# Altium schematic symbol library SPEC_A7_Management.SCHLIB: 17 symbols
Pins are listed as number, name and electrical type; pins without a type are passive.

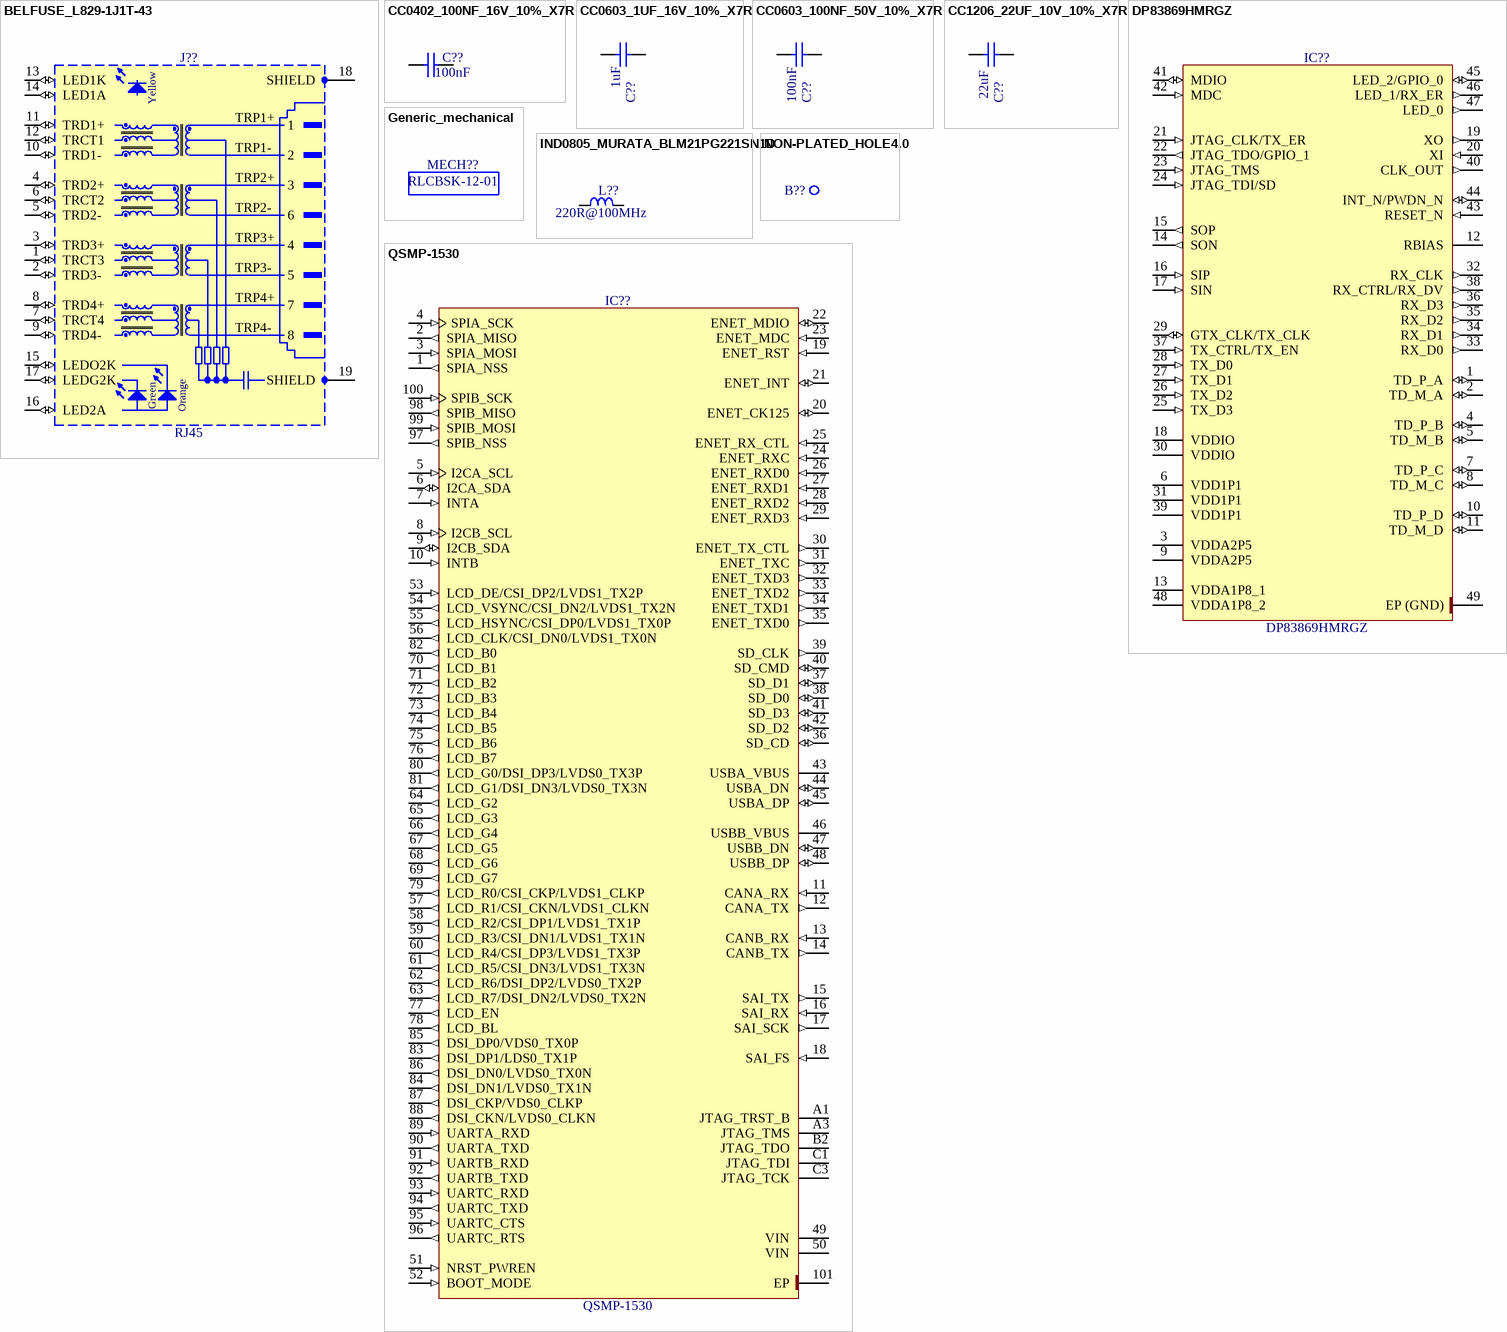
[diagram p0: symbols BELFUSE_L829-1J1T-43 to QSMP-1530]

## BELFUSE_L829-1J1T-43
designator J??, comment RJ45
1 Port, RJ45, Gigabit Ethernet, MagJack Connector Module With Yellow And Green/Orange LEDs; Part Number: BELFUSE_L829-1J1T-43; Part Description: 1 Port, Yellow/ Green-Orange LEDs,  RJ45 10/100/1000 Gigabit Ethernet, MagJack® Connector Module; Manufacturer: BEL MAGNETIC SOLUTIONS; Manufacturer Part Number: L829-1J1T-43; PressFit: No; Component Kind: Standard; Component Type: Standard; Footprint: BEL_L829-1J1T-43; Pin Count: 19; Family: RJ45; Mounted: Yes; Socket: No; SMD: No; Sense: No; Status: None; ComponentHeight: 13.3mm; HelpURL: \\cern.ch\dfs\Applications\Altium\Datasheets\BEL_L829-1J1T-43.pdf; Author: CERN DEM JLC; CreateDate: 22.08.2011; LatestRevisionDate: 20.09.2018
footprint BEL_L829-1J1T-43
pins: 1 TRCT3 (io), 2 TRD3- (io), 3 TRD3+ (io), 4 TRD2+ (io), 5 TRD2- (io), 6 TRCT2 (io), 7 TRCT4 (io), 8 TRD4+ (io), 9 TRD4- (io), 10 TRD1- (io), 11 TRD1+ (io), 12 TRCT1 (io), 13 LED1K (io), 14 LED1A (io), 15 LEDO2K (io), 16 LED2A (io), 17 LEDG2K (io), 18 SHIELD (power), 19 SHIELD (power)
text: Yellow; TRP1+; TRP1-; TRP2+; TRP2-; TRP3+; TRP3-; TRP4+; TRP4-; Green; Orange

## CC0402_100NF_16V_10%_X7R
designator C??, comment 100nF
Non-polarised capacitor; Part Number: CC0402_100NF_16V_10%_X7R; Part Description: SMD Multilayer Chip Ceramic Capacitor; Manufacturer: GENERIC; Manufacturer1 Part Number: GRM155R71C104KA88D; Voltage: 16V; TC: X7R; Tolerance: ±10%; Component Kind: Standard; Component Type: Standard; Footprint: CAPC1005X55N; Pin Count: 2; Value: 100nF; Status: Not Recommended; Manufacturer Part Number: CC0402_100NF_16V_10%_X7R; Case: 0402; Mounted: Yes; Socket: No; SMD: Yes; Sense: No; Manufacturer1 Example: MURATA; Manufacturer1 ComponentHeight: 0.55mm; HelpURL: \\cern.ch\dfs\Applications\Altium\Datasheets\CC0402_X7R_MURATA_GRM.pdf; Author: CERN DEM JLC; CreateDate: 05/12/2013; LatestRevisionDate: 03/12/2007
footprint CAPC1005X55N
pins: 1, 2

## CC0603_1UF_16V_10%_X7R
designator C??, comment 1uF
Non-polarised capacitor; Part Number: CC0603_1UF_16V_10%_X7R; Part Description: SMD Multilayer Chip Ceramic Capacitor; Manufacturer: GENERIC; Manufacturer1 Part Number: 223824613663; Voltage: 16V; TC: X7R; Tolerance: ±10%; Table: Capacitors SMD; Component Kind: Standard; Component Type: Standard; Footprint: CAPC1608X87N; Pin Count: 2; Value: 1uF; Status: Preferred; Manufacturer Part Number: CC0603_1uF_16V_10%_X7R; Case: 0603; Mounted: Yes; Socket: No; SMD: Yes; Manufacturer1 Example: PHYCOMP; Manufacturer1 ComponentHeight: 0.87mm; HelpURL: \\cern.ch\dfs\Applications\Altium\Datasheets\CC0805_X5R_PHYCOMP_HC.pdf; Author: CERN DEM JLC; CreateDate: 03/12/2007; LatestRevisionDate: 03/12/2007
footprint CAPC1608X87N
pins: 1, 2

## CC0603_100NF_50V_10%_X7R
designator C??, comment 100nF
Non-polarised capacitor; Part Number: CC0603_100NF_50V_10%_X7R; Part Description: SMD Multilayer Chip Ceramic Capacitor; Manufacturer: GENERIC; Manufacturer1 Part Number: 223858615649; Voltage: 50V; TC: X7R; Tolerance: ±10%; Table: Capacitors SMD; Component Kind: Standard; Component Type: Standard; Footprint: CAPC1608X87N; Pin Count: 2; Value: 100nF; Status: Preferred; Manufacturer Part Number: CC0603_100NF_50V_10%_X7R; Case: 0603; Mounted: Yes; Socket: No; SMD: Yes; Manufacturer1 Example: PHYCOMP; Manufacturer1 ComponentHeight: 0.87mm; HelpURL: \\cern.ch\dfs\Applications\Altium\Datasheets\CC0603_X7R_PHYCOMP.pdf; Author: CERN DEM JLC; CreateDate: 12/3/2007; LatestRevisionDate: 12/3/2007
footprint CAPC1608X87N
pins: 1, 2

## CC1206_22UF_10V_10%_X7R
designator C??, comment 22uF
Non-polarised capacitor; Part Number: CC1206_22UF_10V_10%_X7R; Part Description: SMD Multilayer Chip Ceramic Capacitor; Manufacturer: GENERIC; Manufacturer1 Part Number: GRM31CR71A226KE15L; Voltage: 10V; TC: X7R; Tolerance: ±10%; Table: Capacitors SMD; Component Kind: Standard; Component Type: Standard; Footprint: CAPC3216X180N; Pin Count: 2; Value: 22uF; Status: Preferred; Manufacturer Part Number: CC1206_22UF_10V_10%_X7R; Case: 1206; Mounted: Yes; Socket: No; SMD: Yes; Manufacturer1 Example: MURATA; Manufacturer1 ComponentHeight: 1.8mm; HelpURL: \\cern.ch\dfs\Applications\Altium\Datasheets\CC1206_X7R_MURATA_GRM-HI-CAP.pdf; Author: CERN DEM JLC; CreateDate: 2010-06-08; LatestRevisionDate: 2010-06-08
footprint CAPC3216X180N
pins: 1, 2

## DP83869HMRGZ
designator IC??
DP83869HM High Immunity 10/100/1000 Ethernet Physical Layer Transceiver WithCopper and Fiber Interface; Manufacturer: TEXAS INSTRUMENTS; PressFit: No; Bonding: No; Part Number: DP83869HMRGZ; Component Kind: Standard; Component Type: Standard; Device: DP83869HMRGZ; Footprint: QFN50P700X700X100-49N-S420; PackageDescription: QFN, 0.50mm Pitch, Square; 48 Pin, 7.00mm L X 7.00mm W X 1.00mm H body (w/Thermal Tab 4.20 X 4.20mm), IPC Medium Density; Part Description: High Immunity 10/100/1000 Ethernet Physical Layer Transceiver with Copper and Fiber Interface; Manufacturer Part Number: DP83869HMRGZ; Pin Count: 48; Case: QFN48; Mounted: Yes; Socket: No; SMD: Yes; Sense: No; ComponentHeight: 1mm; Author: CERN DEM HF; HelpURL: \\cern.ch\dfs\Applications\Altium\Datasheets\DP83869HMRGZ.pdf; CreateDate: 24.04.2024; LatestRevisionDate: 24.04.2024
footprint QFN50P700X700X100-49N-S420
pins: 1 TD_P_A (io), 2 TD_M_A (io), 3 VDDA2P5 (power), 4 TD_P_B (io), 5 TD_M_B (io), 6 VDD1P1 (power), 7 TD_P_C (io), 8 TD_M_C (io), 9 VDDA2P5 (power), 10 TD_P_D (io), 11 TD_M_D (io), 12 RBIAS, 13 VDDA1P8_1 (power), 14 SON (out), 15 SOP (out), 16 SIP (in), 17 SIN (in), 18 VDDIO (power), 19 XO (out), 20 XI (in), 21 JTAG_CLK/TX_ER (in), 22 JTAG_TDO/GPIO_1 (out), 23 JTAG_TMS (in), 24 JTAG_TDI/SD (in), 25 TX_D3 (in), 26 TX_D2 (in), 27 TX_D1 (in), 28 TX_D0 (in), 29 GTX_CLK/TX_CLK (io), 30 VDDIO (power), 31 VDD1P1 (power), 32 RX_CLK (out), 33 RX_D0 (out), 34 RX_D1 (out), 35 RX_D2 (out), 36 RX_D3 (out), 37 TX_CTRL/TX_EN (in), 38 RX_CTRL/RX_DV (out), 39 VDD1P1 (power), 40 CLK_OUT (out), 41 MDIO (io), 42 MDC (in), 43 RESET_N (in), 44 INT_N/PWDN_N (io), 45 LED_2/GPIO_0 (io), 46 LED_1/RX_ER (out), 47 LED_0 (out), 48 VDDA1P8_2 (power), 49 EP (GND) (power)

## Generic_mechanical
designator MECH??, comment RLCBSK-12-01
generic; Part Number: Essentra; Part Description: 12mm nylon standoff; PressFit: No; Component Kind: Accessories; Component Type: Standard; Footprint: generic_MECH; Pin Count: 0; PackageDescription: generic; Mounted: Yes; Socket: No; SMD: No; Sense: No; Status: None; Value: RLCBSK-12-01; Manufacturer: Essentra; Manufacturer Part Number: RLCBSK-12-01; ComponentHeight: 12; Author: GK; CreateDate: 28.10.2019; LatestRevisionDate: 28.10.2019
footprint GENERIC_MECH

## IND0805_MURATA_BLM21PG221SN1D
designator L??, comment 220R@100MHz
Inductor; Part Number: IND0805_MURATA_BLM21PG221SN1D; Part Description: SMD EMIFIL Suppression Chip Bead Ferrite; Manufacturer: MURATA; Manufacturer Part Number: BLM21PG221SN1D; Power: 2A; Resistance: 0.05R; Tolerance: ±25%; Table: Inductors SMD; Component Kind: Standard; Component Type: Standard; Footprint: INDC2012X105N; Pin Count: 2; Value: 220R@100MHz; Status: None; Case: 0805; Mounted: Yes; Socket: No; SMD: Yes; ComponentHeight: 1.05mm; HelpURL: \\cern.ch\dfs\Applications\Altium\Datasheets\IND0402_MURATA_BLM21P.pdf; Author: CERN DEM JLC; CreateDate: 25/01/2010; LatestRevisionDate: 25/01/2010
footprint INDC2012X105N
pins: 1, 2

## NON-PLATED_HOLE4.0
designator B??, comment Non Plated Hole  (value not drawn)  (no BOM)
Single Terminal Socket; Part Number: NON-PLATED_HOLE4.0; Part Description: Non Plated Through Hole: Hole Dia.=4.0mm; Mounted: No; Component Type: Standard (No BOM); Footprint: MTG400; Pin Count: 1; Family: Non Plated Hole; Socket: No; SMD: No; Sense: No; Status: None; ComponentHeight: 0mm; HelpURL: Undefined; Author: CERN DEM JMW; CreateDate: 22.03.2019; LatestRevisionDate: 22.03.2019; PackageDescription: Non Plated Through Hole: Hole Dia.=4.0mm
footprint MTG400
pins: 1 (io)

## QSMP-1530
designator IC??
Computer-On-Modules - COM QSMP/153A/256S/4GF/E85; Manufacturer: KARO; PressFit: No; Bonding: No; Part Number: QSMP-1530; Component Kind: Standard; Component Type: Standard; Device: QSMP-1530; Footprint: KARO_QSMP-1530; PackageDescription: QFN, 0.65mm Pitch, 100 Pin,27.35mm L X 27.35mm W X 2.3mm H Body (w/Thermal Tab 24.3 X 24.3mm); Status: Not Recommended; Part Description: Computer-On-Modules - COM QSMP/153A/256S/4GF/E85; Manufacturer Part Number: QSMP-1530; Pin Count: 106; Case: QFP100; Mounted: Yes; Socket: No; SMD: Yes; Sense: No; ComponentHeight: 2.3mm; HelpURL: \\cern.ch\dfs\Applications\Altium\Datasheets\KARO_QSMP-1530.pdf; Author: CERN DEM HF; CreateDate: 22.04.2024; LatestRevisionDate: 22.04.2024
footprint KARO_QSMP-1530
pins: 1 SPIA_NSS (out), 2 SPIA_MISO (out), 3 SPIA_MOSI (in), 4 SPIA_SCK (in), 5 I2CA_SCL (in), 6 I2CA_SDA (io), 7 INTA (in), 8 I2CB_SCL (in), 9 I2CB_SDA (io), 10 INTB (in), 11 CANA_RX (in), 12 CANA_TX (out), 13 CANB_RX (in), 14 CANB_TX (out), 15 SAI_TX (out), 16 SAI_RX (in), 17 SAI_SCK (out), 18 SAI_FS (in), 19 ENET_RST (in), 20 ENET_CK125 (io), 21 ENET_INT (io), 22 ENET_MDIO (io), 23 ENET_MDC (in), 24 ENET_RXC (in), 25 ENET_RX_CTL (in), 26 ENET_RXD0 (in), 27 ENET_RXD1 (in), 28 ENET_RXD2 (in), 29 ENET_RXD3 (in), 30 ENET_TX_CTL (out), 31 ENET_TXC (out), 32 ENET_TXD3 (out), 33 ENET_TXD2 (out), 34 ENET_TXD1 (out), 35 ENET_TXD0 (out), 36 SD_CD (io), 37 SD_D1 (io), 38 SD_D0 (io), 39 SD_CLK (out), 40 SD_CMD (io), 41 SD_D3 (io), 42 SD_D2 (io), 43 USBA_VBUS (power), 44 USBA_DN (io), 45 USBA_DP (io), 46 USBB_VBUS (power), 47 USBB_DN (io), 48 USBB_DP (io), 49 VIN (power), 50 VIN (power), 51 NRST_PWREN (in), 52 BOOT_MODE (in), 53 LCD_DE/CSI_DP2/LVDS1_TX2P (in), 54 LCD_VSYNC/CSI_DN2/LVDS1_TX2N (out), 55 LCD_HSYNC/CSI_DP0/LVDS1_TX0P (out), 56 LCD_CLK/CSI_DN0/LVDS1_TX0N (out), 57 LCD_R1/CSI_CKN/LVDS1_CLKN (out), 58 LCD_R2/CSI_DP1/LVDS1_TX1P (out), 59 LCD_R3/CSI_DN1/LVDS1_TX1N (out), 60 LCD_R4/CSI_DP3/LVDS1_TX3P (out), 61 LCD_R5/CSI_DN3/LVDS1_TX3N (out), 62 LCD_R6/DSI_DP2/LVDS0_TX2P (out), 63 LCD_R7/DSI_DN2/LVDS0_TX2N (out), 64 LCD_G2 (out), 65 LCD_G3 (out), 66 LCD_G4 (out), 67 LCD_G5 (out), 68 LCD_G6 (out), 69 LCD_G7 (out), 70 LCD_B1 (out), 71 LCD_B2 (out), 72 LCD_B3 (out), 73 LCD_B4 (out), 74 LCD_B5 (out), 75 LCD_B6 (out), 76 LCD_B7 (out), 77 LCD_EN (out), 78 LCD_BL (out), 79 LCD_R0/CSI_CKP/LVDS1_CLKP (out), 80 LCD_G0/DSI_DP3/LVDS0_TX3P (out), 81 LCD_G1/DSI_DN3/LVDS0_TX3N (out), 82 LCD_B0 (out), 83 DSI_DP1/LDS0_TX1P (out), 84 DSI_DN1/LVDS0_TX1N (out), 85 DSI_DP0/VDS0_TX0P (out), 86 DSI_DN0/LVDS0_TX0N (out), 87 DSI_CKP/VDS0_CLKP (out), 88 DSI_CKN/LVDS0_CLKN (out), 89 UARTA_RXD (in), 90 UARTA_TXD (out), 91 UARTB_RXD (in), 92 UARTB_TXD (out), 93 UARTC_RXD (in), 94 UARTC_TXD (out), 95 UARTC_CTS (in), 96 UARTC_RTS (out), 97 SPIB_NSS (out), 98 SPIB_MISO (out), 99 SPIB_MOSI (in), 100 SPIB_SCK (in), 101 EP (power), A1 JTAG_TRST_B (power), A3 JTAG_TMS (power), B2 JTAG_TDO (power), C1 JTAG_TDI (power), C3 JTAG_TCK (power)

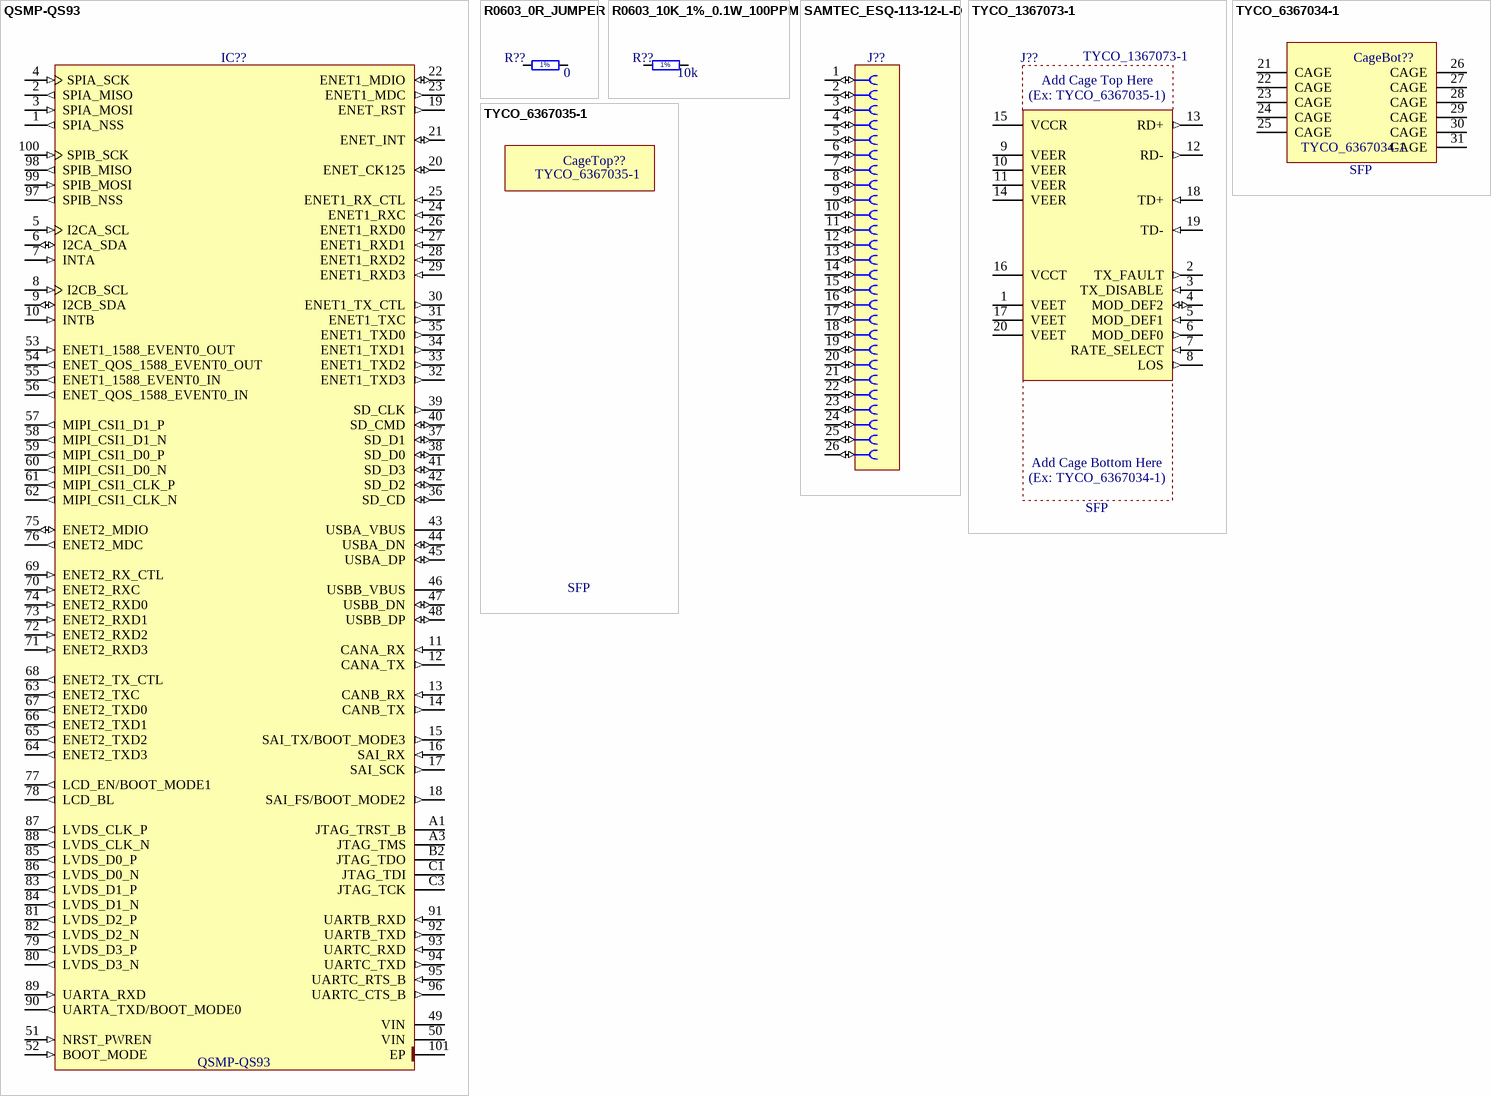
[diagram p1: symbols QSMP-QS93 to TYCO_6367035-1]

## QSMP-QS93
designator IC??
Computer-On-Modules - COM QSMP/QS93; Part Description: Computer-On-Modules - COM QSMP/153A/256S/4GF/E85; Manufacturer: KARO; PressFit: No; Bonding: No; Part Number: QSMP-QS93; Component Kind: Standard; Component Type: Standard; Device: QSMP-QS93; Footprint: KARO_QSMP-1530; PackageDescription: QFN, 0.65mm Pitch, 100 Pin,27.35mm L X 27.35mm W X 2.3mm H Body (w/Thermal Tab 24.3 X 24.3mm); Status: Not Recommended; Manufacturer Part Number: QSMP-1530; Pin Count: 106; Case: QFP100; Mounted: Yes; Socket: No; SMD: Yes; Sense: No; ComponentHeight: 2.3mm; HelpURL: \\cern.ch\dfs\Applications\Altium\Datasheets\KARO_QSMP-1530.pdf; Author: CERN DEM HF; CreateDate: 22.04.2024; LatestRevisionDate: 22.04.2024
footprint KARO_QSMP-1530
pins: 1 SPIA_NSS (out), 2 SPIA_MISO (out), 3 SPIA_MOSI (in), 4 SPIA_SCK (in), 5 I2CA_SCL (in), 6 I2CA_SDA (io), 7 INTA (in), 8 I2CB_SCL (in), 9 I2CB_SDA (io), 10 INTB (in), 11 CANA_RX (in), 12 CANA_TX (out), 13 CANB_RX (in), 14 CANB_TX (out), 15 SAI_TX/BOOT_MODE3 (out), 16 SAI_RX (in), 17 SAI_SCK (out), 18 SAI_FS/BOOT_MODE2 (out), 19 ENET_RST (out), 20 ENET_CK125 (io), 21 ENET_INT (io), 22 ENET1_MDIO (io), 23 ENET1_MDC (out), 24 ENET1_RXC (in), 25 ENET1_RX_CTL (in), 26 ENET1_RXD0 (in), 27 ENET1_RXD1 (in), 28 ENET1_RXD2 (in), 29 ENET1_RXD3 (in), 30 ENET1_TX_CTL (out), 31 ENET1_TXC (out), 32 ENET1_TXD3 (out), 33 ENET1_TXD2 (out), 34 ENET1_TXD1 (out), 35 ENET1_TXD0 (out), 36 SD_CD (io), 37 SD_D1 (io), 38 SD_D0 (io), 39 SD_CLK (out), 40 SD_CMD (io), 41 SD_D3 (io), 42 SD_D2 (io), 43 USBA_VBUS (power), 44 USBA_DN (io), 45 USBA_DP (io), 46 USBB_VBUS (power), 47 USBB_DN (io), 48 USBB_DP (io), 49 VIN (power), 50 VIN (power), 51 NRST_PWREN (in), 52 BOOT_MODE (in), 53 ENET1_1588_EVENT0_OUT (in), 54 ENET_QOS_1588_EVENT0_OUT (out), 55 ENET1_1588_EVENT0_IN (out), 56 ENET_QOS_1588_EVENT0_IN (out), 57 MIPI_CSI1_D1_P (out), 58 MIPI_CSI1_D1_N (out), 59 MIPI_CSI1_D0_P (out), 60 MIPI_CSI1_D0_N (out), 61 MIPI_CSI1_CLK_P (out), 62 MIPI_CSI1_CLK_N (out), 63 ENET2_TXC (out), 64 ENET2_TXD3 (out), 65 ENET2_TXD2 (out), 66 ENET2_TXD1 (out), 67 ENET2_TXD0 (out), 68 ENET2_TX_CTL (out), 69 ENET2_RX_CTL (in), 70 ENET2_RXC (in), 71 ENET2_RXD3 (in), 72 ENET2_RXD2 (in), 73 ENET2_RXD1 (in), 74 ENET2_RXD0 (in), 75 ENET2_MDIO (io), 76 ENET2_MDC (out), 77 LCD_EN/BOOT_MODE1 (out), 78 LCD_BL (out), 79 LVDS_D3_P (out), 80 LVDS_D3_N (out), 81 LVDS_D2_P (out), 82 LVDS_D2_N (out), 83 LVDS_D1_P (out), 84 LVDS_D1_N (out), 85 LVDS_D0_P (out), 86 LVDS_D0_N (out), 87 LVDS_CLK_P (out), 88 LVDS_CLK_N (out), 89 UARTA_RXD (in), 90 UARTA_TXD/BOOT_MODE0 (out), 91 UARTB_RXD (in), 92 UARTB_TXD (out), 93 UARTC_RXD (in), 94 UARTC_TXD (out), 95 UARTC_RTS_B (in), 96 UARTC_CTS_B (out), 97 SPIB_NSS (out), 98 SPIB_MISO (out), 99 SPIB_MOSI (in), 100 SPIB_SCK (in), 101 EP (power), A1 JTAG_TRST_B (power), A3 JTAG_TMS (power), B2 JTAG_TDO (power), C1 JTAG_TDI (power), C3 JTAG_TCK (power)

## R0603_0R_JUMPER
designator R??, comment 0
Resistor - 1%; Part Number: R0603_0R_JUMPER; Part Description: 1A (0.05R Max DC Resistance) Zero Ohm Jumper; Manufacturer: GENERIC; Manufacturer1 Part Number: NRC06Z0; Table: Resistors SMD; Component Kind: Standard; Component Type: Standard; Footprint: RESC1608X55N; Pin Count: 2; Value: 0; Status: Preferred; Manufacturer Part Number: R0603_0R_JUMPER; Case: 0603; Mounted: Yes; Socket: No; SMD: Yes; Manufacturer1 Example: NIC COMPONENT; Manufacturer1 ComponentHeight: 0.55mm; HelpURL: \\cern.ch\dfs\Applications\Altium\Datasheets\R0603_NIC_NRC.pdf; Author: CERN DEM JLC; CreateDate: 12/3/2007; LatestRevisionDate: 3/13/2008
footprint RESC1608X55N
pins: 1, 2
text: 1%

## R0603_10K_1%_0.1W_100PPM
designator R??, comment 10k
Resistor - 1%; Part Number: R0603_10K_1%_0.1W_100PPM; Part Description: General Purpose Thick Film Chip Resistor; Manufacturer: GENERIC; Manufacturer1 Part Number: NRC06F1002TRF; Power: 0.1W; TC: ±100ppm/°C; Table: Resistors SMD; Component Kind: Standard; Component Type: Standard; Footprint: RESC1608X55N; Pin Count: 2; Value: 10k; Status: Preferred; Tolerance: ±1%; Manufacturer Part Number: R0603_10K_1%_0.1W_100PPM; Case: 0603; Mounted: Yes; Socket: No; SMD: Yes; Manufacturer1 Example: NIC COMPONENT; Manufacturer1 ComponentHeight: 0.55mm; HelpURL: \\cern.ch\dfs\Applications\Altium\Datasheets\R0603_NIC_NRC.pdf; Author: CERN DEM JLC; CreateDate: 12/3/2007; LatestRevisionDate: 3/13/2008
footprint RESC1608X55N
pins: 1, 2
text: 1%

## SAMTEC_ESQ-113-12-L-D
designator J??, comment Socket 26  (value not drawn)
Connector 26 Female; Part Number: SAMTEC_ESQ-113-12-L-D; Part Description: 26 Contacts, Pitch 2.54mm, Dual Row Through Mount Straight Socket (Lead Length 2.29mm); Manufacturer: SAMTEC; Manufacturer Part Number: ESQ-113-12-L-D; PressFit: No; Component Kind: Standard; Component Type: Standard; Footprint: SAMTEC_ESQ-113-12-L-D; Pin Count: 26; Family: Socket 26; Mounted: Yes; Socket: No; SMD: No; Sense: No; Status: None; ComponentHeight: 11.05mm; HelpURL: \\cern.ch\dfs\Applications\Altium\Datasheets\SAMTEC_ESQ-113-12-L-D.pdf; Author: CERN DEM HF; CreateDate: 02.03.2022; LatestRevisionDate: 02.03.2022
footprint SAMTEC_ESQ-113-12-L-D
pins: 1 (io), 2 (io), 3 (io), 4 (io), 5 (io), 6 (io), 7 (io), 8 (io), 9 (io), 10 (io), 11 (io), 12 (io), 13 (io), 14 (io), 15 (io), 16 (io), 17 (io), 18 (io), 19 (io), 20 (io), 21 (io), 22 (io), 23 (io), 24 (io), 25 (io), 26 (io)
1 alternate drawing of the same symbol

## TYCO_1367073-1
designator J??, comment SFP  Part Number: TYCO_1367073-1
20 Position SFP  Connector (Small Form-factor Pluggable); Part Description: 20 Position, Pitch 0.8mm SFP  Receptacle (Small Form-factor Pluggable); Manufacturer: TYCO ELECTRONICS; Manufacturer Part Number: 1367073-1; Table: TYCO; Component Kind: Standard; Component Type: Standard; Footprint: TYCO_1367073-1; Pin Count: 20; Family: SFP; Mounted: Yes; Socket: No; SMD: Yes; Status: None; ComponentHeight: 5.4mm; ComponentLink1URL: \\cern.ch\dfs\Applications\Altium\Datasheets\TYCO_SFP_Application.pdf; ComponentLink1Description: Application; ComponentLink2URL: \\cern.ch\dfs\Applications\Altium\Datasheets\Tyco_SFP_Specification.pdf; ComponentLink2Description: SFP Specification; HelpURL: \\cern.ch\dfs\Applications\Altium\Datasheets\TYCO_1367073-1.pdf; Author: CERN DEM JLC; CreateDate: 25/01/2010; LatestRevisionDate: 25/01/2010
footprint TYCO_1367073-1
pins: 1 VEET (power), 2 TX_FAULT (out), 3 TX_DISABLE (in), 4 MOD_DEF2 (io), 5 MOD_DEF1 (in), 6 MOD_DEF0 (out), 7 RATE_SELECT (in), 8 LOS (out), 9 VEER (power), 10 VEER (power), 11 VEER (power), 12 RD- (out), 13 RD+ (out), 14 VEER (power), 15 VCCR (power), 16 VCCT (power), 17 VEET (power), 18 TD+ (in), 19 TD- (in), 20 VEET (power)
text: Add Cage Top Here; (Ex: TYCO_6367035-1); Add Cage Bottom Here; (Ex: TYCO_6367034-1)

## TYCO_6367034-1
designator CageBot??, comment SFP  Manufacturer Part Number: TYCO_6367034-1
SFP  Cage Bottom (Small Form-factor Pluggable); Part Description: Cage bottom For Single Port SFP  (Small Form-factor Pluggable); Manufacturer: TYCO ELECTRONICS; Table: TYCO; Part Number: TYCO_6367034-1; Component Kind: Standard; Component Type: Standard; Footprint: TYCO_6367034-1; Pin Count: 11; Family: SFP; Mounted: Yes; Socket: No; SMD: No; Status: None; ComponentHeight: 8.8mm; ComponentLink1URL: \\cern.ch\dfs\Applications\Altium\Datasheets\TYCO_SFP_Application.pdf; ComponentLink1Description: Application; ComponentLink2URL: \\cern.ch\dfs\Applications\Altium\Datasheets\Tyco_SFP_Specification.pdf; ComponentLink2Description: SFP Specification; HelpURL: \\cern.ch\dfs\Applications\Altium\Datasheets\TYCO_6367034-1.pdf; Author: CERN DEM JLC; CreateDate: 25.01.2010; LatestRevisionDate: 25.01.2010; ClassName: Component_Not_DRC
footprint TYCO_6367034-1
pins: 21 CAGE (power), 22 CAGE (power), 23 CAGE (power), 24 CAGE (power), 25 CAGE (power), 26 CAGE (power), 27 CAGE (power), 28 CAGE (power), 29 CAGE (power), 30 CAGE (power), 31 CAGE (power)

## TYCO_6367035-1
designator CageTop??, comment SFP  Part Number: TYCO_6367035-1
SFP  Cage Top (Small Form-factor Pluggable); Part Description: Cage Top For Single Port SFP  (Small Form-factor Pluggable); Manufacturer: TYCO ELECTRONICS; Designator: SFPx1_Cage Top; Table: TYCO; Component Kind: Standard; Component Type: Standard; Footprint: TYCO_6367035-1; Library Reference: SFPx1_Cage Top; Pin Count: 0; Family: SFP; Mounted: Yes; Socket: No; SMD: No; Status: None; Manufacturer Part Number: TYCO_6367035-1; ComponentHeight: 10mm; Datasheet: \\cern.ch\dfs\Applications\Altium\Datasheets\TYCO_6367035-1.pdf; ComponentLink1URL: \\cern.ch\dfs\Applications\Altium\Datasheets\TYCO_SFP_Application.pdf; ComponentLink1Description: Application; ComponentLink2URL: \\cern.ch\dfs\Applications\Altium\Datasheets\Tyco_SFP_Specification.pdf; ComponentLink2Description: SFP Specification; HelpURL: \\cern.ch\dfs\Applications\Altium\Datasheets\TYCO_6367035-1.pdf; Author: CERN DEM JLC; CreateDate: 25/01/2010; LatestRevisionDate: 25/01/2010; ClassName: Component_Not_DRC
footprint TYCO_6367035-1